# Altium integrated library Diodes PTH - General Purpose.IntLib: 30 symbols
Pins are listed as number, name and electrical type; pins without a type are passive.

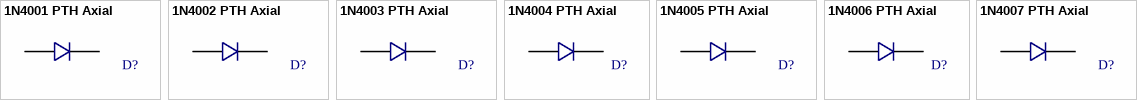
[diagram p0: symbols 1N4001 PTH Axial to 1N4007 PTH Axial]

## 1N4001 PTH Axial
designator D?, comment 1N4001 Axial  (value not drawn)
Diode Standard 50V 1A Through Hole DO-41; Manufacturer 1: ON Semiconductor; Manufacturer 1 PN: 1N4001G; ComponentLink1Description: Datasheet; ComponentLink1URL: http://www.onsemi.com/pub/Collateral/1N4001-D.PDF; Current: 1A; Voltage: 50V
footprint 1N4001 AXIAL (Diode Standard 50V 1A Through Hole DO-41)
pins: A, K

## 1N4002 PTH Axial
designator D?, comment 1N4002 Axial  (value not drawn)
Diode Standard 100V 1A Through Hole DO-41; Manufacturer 1: ON Semiconductor; ComponentLink1Description: Datasheet; ComponentLink1URL: http://www.onsemi.com/pub/Collateral/1N4001-D.PDF; Manufacturer 1 PN: 1N4002; Current: 1A; Voltage: 100V
footprint 1N4002 AXIAL (Diode Standard 100V 1A Through Hole DO-41)
pins: A, K

## 1N4003 PTH Axial
designator D?, comment 1N4003 Axial  (value not drawn)
Diode Standard 200V 1A Through Hole DO-41; Manufacturer 1: ON Semiconductor; ComponentLink1Description: Datasheet; ComponentLink1URL: http://www.onsemi.com/pub/Collateral/1N4001-D.PDF; Manufacturer 1 PN: 1N4003; Current: 1A; Voltage: 200V
footprint 1N4003 AXIAL (Diode Standard 200V 1A Through Hole DO-41)
pins: A, K

## 1N4004 PTH Axial
designator D?, comment 1N4004 Axial  (value not drawn)
Diode Standard 400V 1A Through Hole DO-41; Manufacturer 1: ON Semiconductor; ComponentLink1Description: Datasheet; ComponentLink1URL: http://www.onsemi.com/pub/Collateral/1N4001-D.PDF; Manufacturer 1 PN: 1N4004; Current: 1A; Voltage: 400V
footprint 1N4004 AXIAL (Diode Standard 400V 1A Through Hole DO-41)
pins: A, K

## 1N4005 PTH Axial
designator D?, comment 1N4005 Axial  (value not drawn)
Diode Standard 600V 1A Through Hole DO-41; Manufacturer 1: ON Semiconductor; Manufacturer 1 PN: 1N4005RLG; ComponentLink1Description: Datasheet; ComponentLink1URL: http://www.onsemi.com/pub/Collateral/1N4001-D.PDF; Current: 1A; Voltage: 600V
footprint 1N4005 AXIAL (Diode Standard 600V 1A Through Hole DO-41)
pins: A, K

## 1N4006 PTH Axial
designator D?, comment 1N4006 Axial  (value not drawn)
Diode Standard 800V 1A Through Hole Axial; Manufacturer 1: ON Semiconductor; Manufacturer 1 PN: 1N4006FFG; ComponentLink1Description: Datasheet; ComponentLink1URL: http://www.onsemi.com/pub/Collateral/1N4001-D.PDF; Current: 1A; Voltage: 800V
footprint 1N4006 AXIAL (Diode Standard 800V 1A Through Hole DO-41)
pins: A, K

## 1N4007 PTH Axial
designator D?, comment 1N4007 Axial  (value not drawn)
Diode Standard 1000V 1A Through Hole DO-41; Manufacturer 1: ON Semiconductor; ComponentLink1Description: Datasheet; ComponentLink1URL: http://www.onsemi.com/pub/Collateral/1N4001-D.PDF; Manufacturer 1 PN: 1N4007; Current: 1A; Voltage: 1000V
footprint 1N4007 AXIAL (Diode Standard 1000V 1A Through Hole DO-41)
pins: A, K


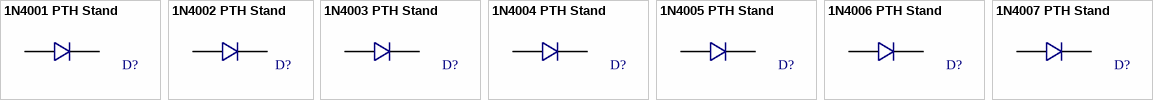
[diagram p1: symbols 1N4001 PTH Stand to 1N4007 PTH Stand]

## 1N4001 PTH Stand
designator D?, comment 1N4001 Stand  (value not drawn)
Diode Standard 50V 1A Through Hole DO-41; Manufacturer 1: ON Semiconductor; Manufacturer 1 PN: 1N4001G; ComponentLink1Description: Datasheet; ComponentLink1URL: http://www.onsemi.com/pub/Collateral/1N4001-D.PDF; Current: 1A; Voltage: 50V
footprint 1N4001 STAND (Diode Standard 50V 1A Through Hole DO-41)
pins: A, K

## 1N4002 PTH Stand
designator D?, comment 1N4002 Stand  (value not drawn)
Diode Standard 100V 1A Through Hole DO-41; Manufacturer 1: ON Semiconductor; ComponentLink1Description: Datasheet; ComponentLink1URL: http://www.onsemi.com/pub/Collateral/1N4001-D.PDF; Manufacturer 1 PN: 1N4002; Current: 1A; Voltage: 100V
footprint 1N4002 STAND (Diode Standard 100V 1A Through Hole DO-41)
pins: A, K

## 1N4003 PTH Stand
designator D?, comment 1N4003 Stand  (value not drawn)
Diode Standard 200V 1A Through Hole DO-41; Manufacturer 1: ON Semiconductor; ComponentLink1Description: Datasheet; ComponentLink1URL: http://www.onsemi.com/pub/Collateral/1N4001-D.PDF; Manufacturer 1 PN: 1N4003; Current: 1A; Voltage: 200V
footprint 1N4003 STAND (Diode Standard 200V 1A Through Hole DO-41)
pins: A, K

## 1N4004 PTH Stand
designator D?, comment 1N4004 Stand  (value not drawn)
Diode Standard 400V 1A Through Hole DO-41; Manufacturer 1: ON Semiconductor; ComponentLink1Description: Datasheet; ComponentLink1URL: http://www.onsemi.com/pub/Collateral/1N4001-D.PDF; Manufacturer 1 PN: 1N4004; Current: 1A; Voltage: 400V
footprint 1N4004 STAND (Diode Standard 400V 1A Through Hole DO-41)
pins: A, K

## 1N4005 PTH Stand
designator D?, comment 1N4005 Stand  (value not drawn)
Diode Standard 600V 1A Through Hole DO-41; Manufacturer 1: ON Semiconductor; Manufacturer 1 PN: 1N4005RLG; ComponentLink1Description: Datasheet; ComponentLink1URL: http://www.onsemi.com/pub/Collateral/1N4001-D.PDF; Current: 1A; Voltage: 600V
footprint 1N4005 STAND (Diode Standard 600V 1A Through Hole DO-41)
pins: A, K

## 1N4006 PTH Stand
designator D?, comment 1N4006 Stand  (value not drawn)
Diode Standard 800V 1A Through Hole Axial; Manufacturer 1: ON Semiconductor; Manufacturer 1 PN: 1N4006FFG; ComponentLink1Description: Datasheet; ComponentLink1URL: http://www.onsemi.com/pub/Collateral/1N4001-D.PDF; Current: 1A; Voltage: 800V
footprint 1N4006 STAND (Diode Standard 800V 1A Through Hole DO-41)
pins: A, K

## 1N4007 PTH Stand
designator D?, comment 1N4007 Stand  (value not drawn)
Diode Standard 1000V 1A Through Hole DO-41; Manufacturer 1: ON Semiconductor; ComponentLink1Description: Datasheet; ComponentLink1URL: http://www.onsemi.com/pub/Collateral/1N4001-D.PDF; Manufacturer 1 PN: 1N4007; Current: 1A; Voltage: 1000V
footprint 1N4007 STAND (Diode Standard 1000V 1A Through Hole DO-41)
pins: A, K


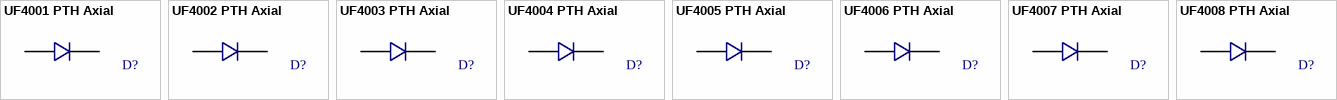
[diagram p2: symbols UF4001 PTH Axial to UF4008 PTH Axial]

## UF4001 PTH Axial
designator D?, comment UF4001 Axial  (value not drawn)
Diode Standard 50V 1A Through Hole DO-204AL (DO-41); Manufacturer 1: ON Semiconductor; Manufacturer 1 PN: UF4001; Current: 1A; Voltage: 50V; ComponentLink1Description: Datasheet; ComponentLink1URL: https://www.fairchildsemi.com/datasheets/UF/UF4001.pdf; Digikey PN: UF4001CT-ND
footprint UF4001 AXIAL (Diode Standard 50V 1A Through Hole DO-204AL (DO-41))
pins: A, K

## UF4002 PTH Axial
designator D?, comment UF4002 Axial  (value not drawn)
Diode Standard 100V 1A Through Hole DO-204AL (DO-41); Manufacturer 1: ON Semiconductor; Manufacturer 1 PN: UF4002; Current: 1A; Voltage: 100V; ComponentLink1Description: Datasheet; ComponentLink1URL: https://www.fairchildsemi.com/datasheets/UF/UF4001.pdf; Digikey PN: UF4002FSCT-ND
footprint UF4002 AXIAL (Diode Standard 100V 1A Through Hole DO-204AL (DO-41))
pins: A, K

## UF4003 PTH Axial
designator D?, comment UF4003 Axial  (value not drawn)
Diode Standard 200V 1A Through Hole DO-204AL (DO-41); Manufacturer 1: ON Semiconductor; Manufacturer 1 PN: UF4003; Current: 1A; Voltage: 200V; ComponentLink1Description: Datasheet; ComponentLink1URL: https://www.fairchildsemi.com/datasheets/UF/UF4001.pdf; Digikey PN: UF4003CT-ND
footprint UF4003 AXIAL (Diode Standard 200V 1A Through Hole DO-204AL (DO-41))
pins: A, K

## UF4004 PTH Axial
designator D?, comment UF4004 Axial  (value not drawn)
Diode Standard 400V 1A Through Hole DO-204AL (DO-41); Manufacturer 1: ON Semiconductor; Manufacturer 1 PN: UF4004; Current: 1A; Voltage: 400V; ComponentLink1Description: Datasheet; ComponentLink1URL: https://www.fairchildsemi.com/datasheets/UF/UF4001.pdf; Digikey PN: UF4004FSCT-ND
footprint UF4004 AXIAL (Diode Standard 400V 1A Through Hole DO-204AL (DO-41))
pins: A, K

## UF4005 PTH Axial
designator D?, comment UF4005 Axial  (value not drawn)
Diode Standard 600V 1A Through Hole DO-204AL (DO-41); Manufacturer 1: ON Semiconductor; Manufacturer 1 PN: UF4005; Current: 1A; Voltage: 600V; ComponentLink1Description: Datasheet; ComponentLink1URL: https://www.fairchildsemi.com/datasheets/UF/UF4001.pdf; Digikey PN: UF4005CT-ND
footprint UF4005 AXIAL (Diode Standard 600V 1A Through Hole DO-204AL (DO-41))
pins: A, K

## UF4006 PTH Axial
designator D?, comment UF4006 Axial  (value not drawn)
Diode Standard 800V 1A Through Hole DO-204AL (DO-41); Manufacturer 1: ON Semiconductor; Manufacturer 1 PN: UF4006; Current: 1A; Voltage: 800V; ComponentLink1Description: Datasheet; ComponentLink1URL: https://www.fairchildsemi.com/datasheets/UF/UF4001.pdf; Digikey PN: UF4006CT-ND
footprint UF4006 AXIAL (Diode Standard 800V 1A Through Hole DO-204AL (DO-41))
pins: A, K

## UF4007 PTH Axial
designator D?, comment UF4007 Axial  (value not drawn)
Diode Standard 1000V 1A Through Hole DO-204AL (DO-41); Manufacturer 1: ON Semiconductor; Manufacturer 1 PN: UF4007; Current: 1A; Voltage: 1000V; ComponentLink1Description: Datasheet; ComponentLink1URL: https://www.fairchildsemi.com/datasheets/UF/UF4001.pdf; Digikey PN: UF4007CT-ND
footprint UF4007 AXIAL (Diode Standard 1000V 1A Through Hole DO-204AL (DO-41))
pins: A, K

## UF4008 PTH Axial
designator D?, comment UF4008 Axial  (value not drawn)
Diode Standard 1000V 1A Through Hole DO-41; Manufacturer 1: Comchip Technology; Manufacturer 1 PN: UF4008-G; ComponentLink1Description: Datasheet; ComponentLink1URL: http://www.onsemi.com/pub/Collateral/1N4001-D.PDF; Current: 1A; Voltage: 1000V; Digikey PN: 641-1745-1-ND
footprint UF4008 AXIAL (Diode Standard 1000V 1A Through Hole DO-204AL (DO-41))
pins: A, K


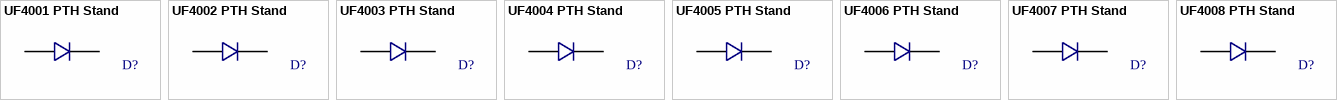
[diagram p3: symbols UF4001 PTH Stand to UF4008 PTH Stand]

## UF4001 PTH Stand
designator D?, comment UF4001 Stand  (value not drawn)
Diode Standard 50V 1A Through Hole DO-204AL (DO-41); Manufacturer 1: ON Semiconductor; ComponentLink1Description: Datasheet; ComponentLink1URL: http://www.onsemi.com/pub/Collateral/1N4001-D.PDF; Manufacturer 1 PN: UF4001; Current: 1A; Voltage: 50V; Digikey PN: UF4001CT-ND
footprint UF4001 STAND (Diode Standard 50V 1A Through Hole DO-204AL (DO-41))
pins: A, K

## UF4002 PTH Stand
designator D?, comment UF4002 Stand  (value not drawn)
Diode Standard 100V 1A Through Hole DO-204AL (DO-41); Manufacturer 1: ON Semiconductor; ComponentLink1Description: Datasheet; ComponentLink1URL: http://www.onsemi.com/pub/Collateral/1N4001-D.PDF; Manufacturer 1 PN: UF4002; Current: 1A; Voltage: 100V; Digikey PN: UF4002FSCT-ND
footprint UF4002 STAND (Diode Standard 100V 1A Through Hole DO-204AL (DO-41))
pins: A, K

## UF4003 PTH Stand
designator D?, comment UF4003 Stand  (value not drawn)
Diode Standard 200V 1A Through Hole DO-204AL (DO-41); Manufacturer 1: ON Semiconductor; ComponentLink1Description: Datasheet; ComponentLink1URL: http://www.onsemi.com/pub/Collateral/1N4001-D.PDF; Manufacturer 1 PN: UF4003; Current: 1A; Voltage: 200V; Digikey PN: UF4003CT-ND
footprint UF4003 STAND (Diode Standard 200V 1A Through Hole DO-204AL (DO-41))
pins: A, K

## UF4004 PTH Stand
designator D?, comment UF4004 Stand  (value not drawn)
Diode Standard 400V 1A Through Hole DO-204AL (DO-41); Manufacturer 1: ON Semiconductor; ComponentLink1Description: Datasheet; ComponentLink1URL: http://www.onsemi.com/pub/Collateral/1N4001-D.PDF; Manufacturer 1 PN: UF4004; Current: 1A; Voltage: 400V; Digikey PN: UF4004FSCT-ND
footprint UF4004 STAND (Diode Standard 400V 1A Through Hole DO-204AL (DO-41))
pins: A, K

## UF4005 PTH Stand
designator D?, comment UF4005 Stand  (value not drawn)
Diode Standard 600V 1A Through Hole DO-204AL (DO-41); Manufacturer 1: ON Semiconductor; ComponentLink1Description: Datasheet; ComponentLink1URL: http://www.onsemi.com/pub/Collateral/1N4001-D.PDF; Manufacturer 1 PN: UF4005; Current: 1A; Voltage: 600V; Digikey PN: UF4005CT-ND
footprint UF4005 STAND (Diode Standard 600V 1A Through Hole DO-204AL (DO-41))
pins: A, K

## UF4006 PTH Stand
designator D?, comment UF4006 Stand  (value not drawn)
Diode Standard 800V 1A Through Hole DO-204AL (DO-41); Manufacturer 1: ON Semiconductor; ComponentLink1Description: Datasheet; ComponentLink1URL: http://www.onsemi.com/pub/Collateral/1N4001-D.PDF; Manufacturer 1 PN: UF4006; Current: 1A; Voltage: 800V; Digikey PN: UF4006CT-ND
footprint UF4006 STAND (Diode Standard 800V 1A Through Hole DO-204AL (DO-41))
pins: A, K

## UF4007 PTH Stand
designator D?, comment UF4007 Stand  (value not drawn)
Diode Standard 1000V 1A Through Hole DO-204AL (DO-41); Manufacturer 1: ON Semiconductor; ComponentLink1Description: Datasheet; ComponentLink1URL: http://www.onsemi.com/pub/Collateral/1N4001-D.PDF; Manufacturer 1 PN: UF4007; Current: 1A; Voltage: 1000V; Digikey PN: UF4007CT-ND
footprint UF4007 STAND (Diode Standard 1000V 1A Through Hole DO-204AL (DO-41))
pins: A, K

## UF4008 PTH Stand
designator D?, comment UF4008 Stand  (value not drawn)
Diode Standard 1000V 1A Through Hole DO-41; Manufacturer 1: Comchip Technology; Manufacturer 1 PN: UF4008-G; ComponentLink1Description: Datasheet; ComponentLink1URL: http://www.onsemi.com/pub/Collateral/1N4001-D.PDF; Current: 1A; Voltage: 1000V; Digikey PN: 641-1745-1-ND
footprint UF4008 STAND (Diode Standard 1000V 1A Through Hole DO-41)
pins: A, K